# EAGLE library part 53398_06 (library Connector)
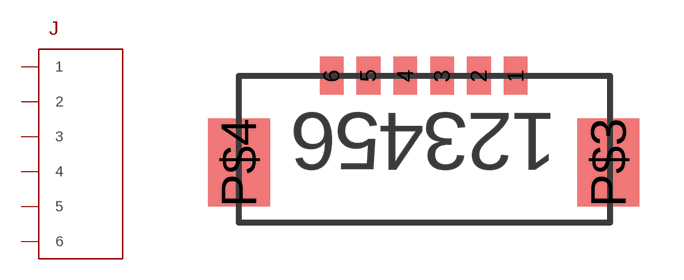
[diagram p0: symbol with the pads of 53398_06; footprint 53398_06]

Designator prefix J

## 53398_06  [53398_06]
1  1
2  2
3  3
4  4
5  5
6  6

## Footprint 53398_06 (pad centres in mm)
smd 0.8 x 1.3: 1 3.1,3.75; 2 1.85,3.75; 3 0.6,3.75; 4 -0.65,3.75; 5 -1.9,3.75; 6 -3.15,3.75
smd 2.1 x 3: P$3 6.25,0.8; P$4 -6.3,0.8